# Altium footprint library MPD_EJ508B.PcbLib: 1 footprints
Each footprint in its own frame and in the unit in brackets; x right, y up, seen from the top. Pads: shape width x height; smd on the part's side, far side on the other; paste and mask are expansions set on the pad; w line width, h text height; cw(c..) or ccw(c..) is an arc to the next point about the centre after c.
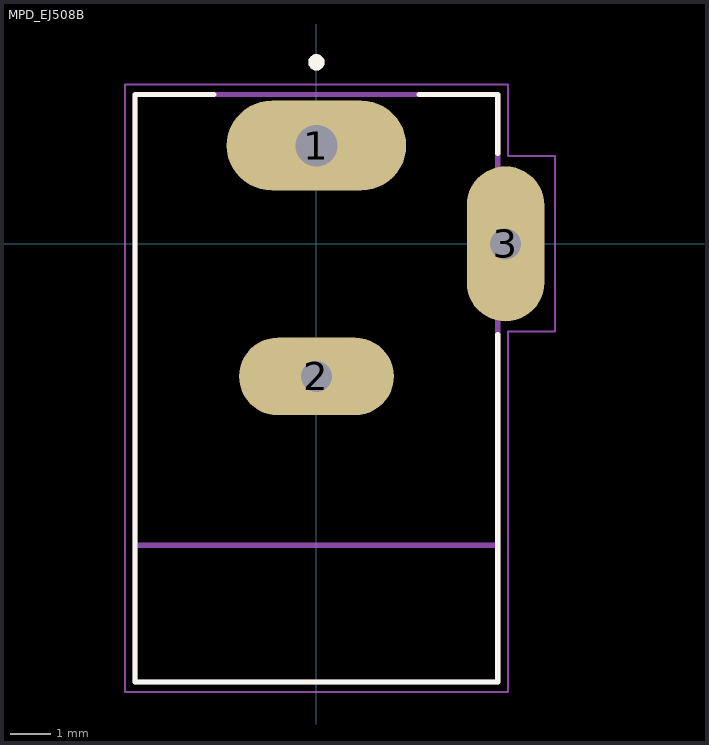
[diagram p0: the footprint, top view; thin cyan lines are the x and y axes]

## MPD_EJ508B [mm]
pads (3):
  oval 4.4x2.2 hole 1.02 square: 1(0,2.41)
  oval 3.8x1.9 hole 0.76 square: 2(0,-3.25)
  oval 1.9x3.8 hole 0.76 square: 3(4.635,0)
Top Overlay:
  circle w0.2: c0,4.45 r0.1
  lines w0.127: -2.52,3.66 -4.445,3.66 -4.445,-10.74 4.445,-10.74 4.445,-2.22 ; 2.52,3.66 4.445,3.66 4.445,2.22
Mechanical 13:
  circle w0.2: c0,4.45 r0.1
  lines w0.127: -4.445,-7.39 -4.445,3.66 4.445,3.66 4.445,-7.39 ; -4.445,-7.39 -4.445,-10.74 4.445,-10.74 4.445,-7.39 ; -4.445,-7.39 4.445,-7.39
Mechanical 15:
  lines w0.05: -4.695,-10.99 -4.695,3.91 4.695,3.91 4.695,2.15 5.85,2.15 5.85,-2.15 4.695,-2.15 4.695,-10.99 -4.695,-10.99